# Altium integrated library TP5100.IntLib: 1 symbol
Pins are listed as number, name and electrical type; pins without a type are passive.

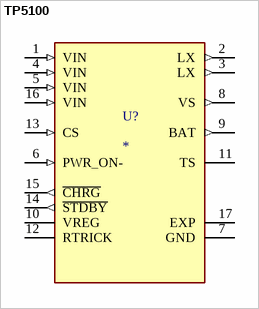
[diagram p0: symbol TP5100]

## TP5100
designator U?
2A-switch buck 8.4V / 4.2V rechargeable lithium battery; MP: TP5100; MF: NanJing Top Power ASIC Corp.; Availability: Not in stock; Price: None; Value: *; SnapEDA_Link: https://www.snapeda.com/parts/TP5100/NanJing+Top+Power+ASIC+Corp./view-part/?ref=snap; Check_prices: https://www.snapeda.com/parts/TP5100/NanJing+Top+Power+ASIC+Corp./view-part/?ref=eda; Package: Package
footprint QFN65P400X400X90-17N
pins: 1 VIN (in), 2 LX (out), 3 LX (out), 4 VIN (in), 5 VIN (in), 6 PWR_ON- (in), 7 GND (power), 8 VS (out), 9 BAT (out), 10 VREG, 11 TS, 12 RTRICK, 13 CS (in), 14 ~{STDBY} (out), 15 ~{CHRG} (out), 16 VIN (in), 17 EXP